# Altium schematic symbol library kmilo17pet-TI_LDO_0_350.SchLib: 1649 symbols (part 63 of 66)
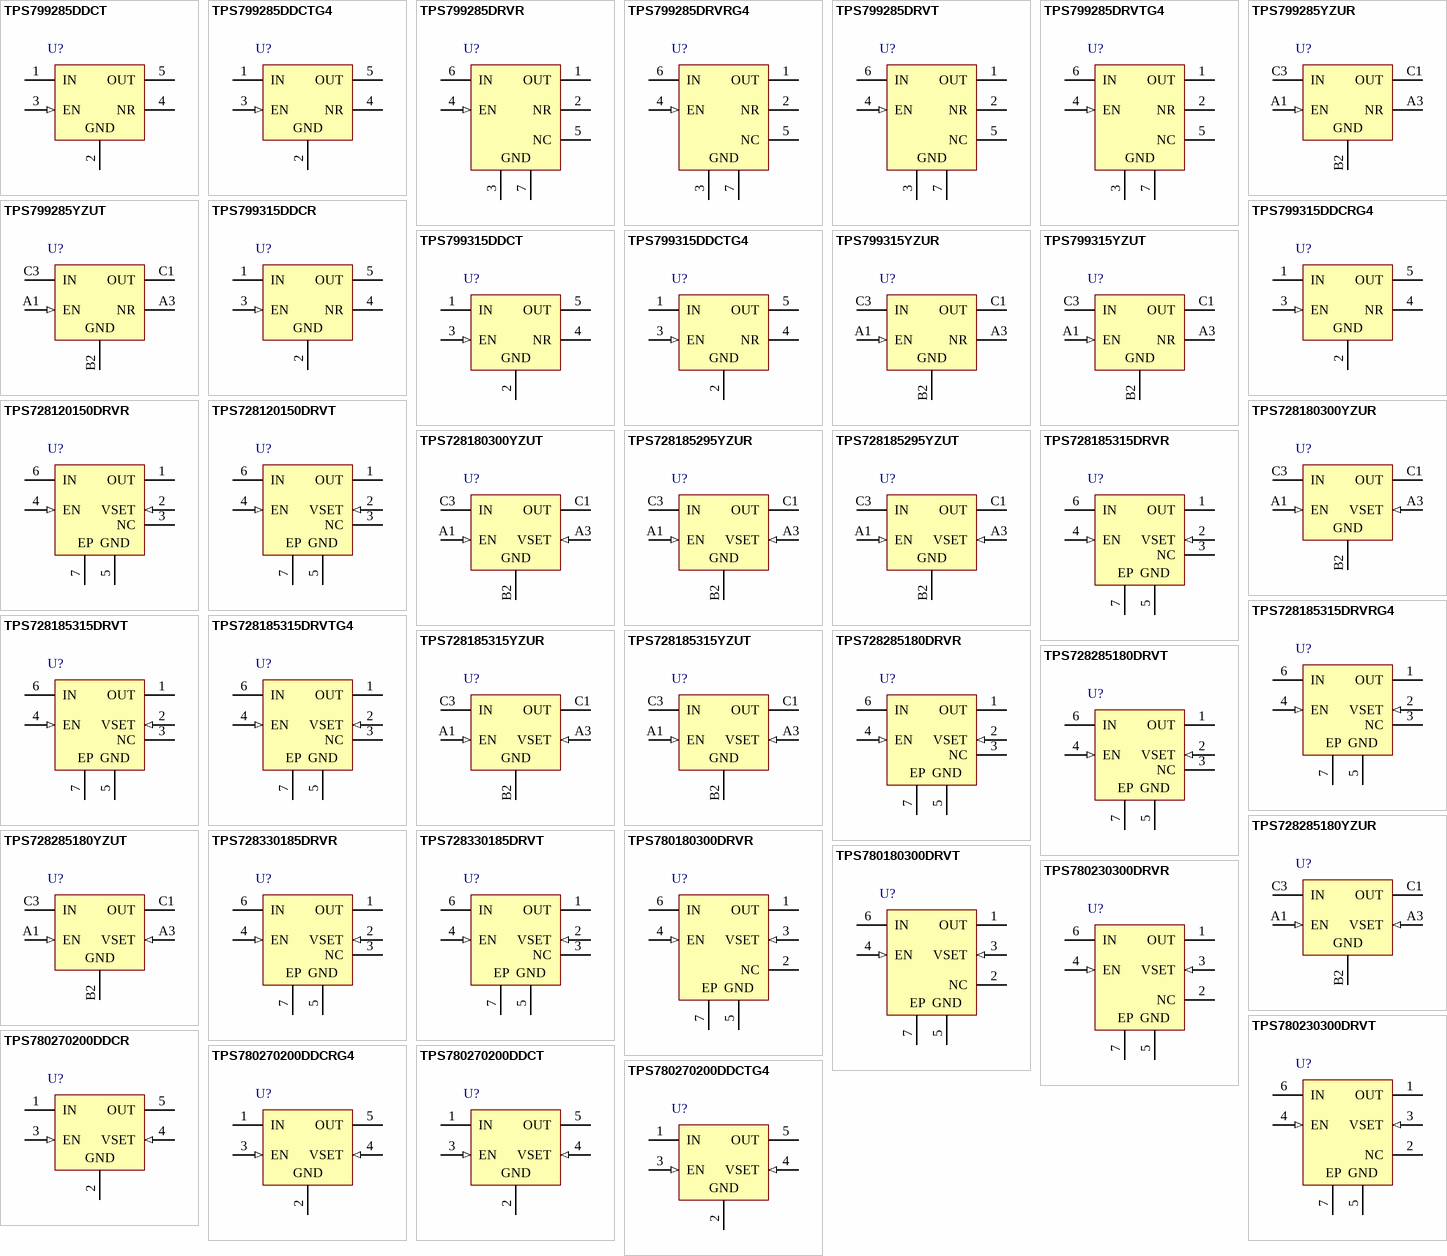
[diagram p104: symbols TPS799285DDCT to TPS780270200DDCTG4]

## TPS728185315DRVRG4
designator U?
Single Output Dual Level Fixed LDO, 200 mA, Fixed 1.85, 3.15 V Output, 2.7 to 6.5 V Input, with Vset Pin, 6-pin SON (DRV), -55 to 125 degC, Green (RoHS & no Sb/Br); Manufacturer: Texas Instruments; PartNumber: TPS728185315DRVRG4; Accuracy(%): 3; Dynamic Voltage Scaling: TRUE; Iout(Max)(A): 0.2; Iq(Typ)(mA): 0.05; SubFamily: Single Channel LDO; Vdo(Typ)(mV): 230; Vin(Max)(V): 6.5; Vin(Min)(V): 2.7; Vout Adj(Max)(V): 3.15; Vout Adj(Min)(V): 1.85; DatasheetVersion: SBVS095; PackageVersion: 4206925/E; PackageReference: DRV6-1600X1000TP; PackageDescription: 6-Pin Plastic Small Outline No-Lead, Body 2 x 2 mm, Pitch 0.65 mm; Supplier 1: Digi-Key; Supplier Part Number 1: TPS728185315DRVRG4-ND; Supplier 2: Newark; Supplier Part Number 2: 60M1813; Supplier 3: Mouser; Supplier Part Number 3: 595-S728185315DRVRG4; Eco-Plan: Green (RoHS & no Sb/Br); Fixed Output Options(V): 1.85, 3.15; Mounting Technology: Surface Mount; ComponentLink1Description: Manufacturer URL; ComponentLink1URL: http://www.ti.com/; ComponentLink2Description: Datasheet; ComponentLink2URL: http://www.ti.com/general/docs/lit/getliterature.tsp?genericPartNumber=TPS728185315&fileType=pdf; ComponentLink3Description: Package Specification; ComponentLink3URL: http://www.ti.com/litv/pdf/mpds216d
footprint TI-DRV6-1600X1000TP_V (SON, 6-Leads, Body 2x2mm, Pitch 0.65mm, Thermal Pad 1X1.6mm)
pins: 1 OUT (power) "Regulated output voltage pin. A small 1uF ceramic capacitor is needed from this pin to ground to assure stability.", 2 VSET (in) "Select pin. Driving VSET below 0.4V selects preset output voltage VOUT1. Driving VSET over 1.2V selects preset output voltage VOUT2.", 3 NC "No connection.", 4 EN (in) "Enable pin. Driving EN over 1.2V turns on the regulator. Driving EN below 0.4V puts the regulator into shutdown mode, thus reducing the operating current to 100nA, nominal.", 5 GND (power) "Ground pin.", 6 IN (power) "Input pin. A small capacitor is needed from this pin to ground to assure stability.", 7 EP (power) "Thermal Pad."

## TPS728185315DRVT
designator U?
Single Output Dual Level Fixed LDO, 200 mA, Fixed 1.85, 3.15 V Output, 2.7 to 6.5 V Input, with Vset Pin, 6-pin SON (DRV), -55 to 125 degC, Green (RoHS & no Sb/Br); Manufacturer: Texas Instruments; PartNumber: TPS728185315DRVT; Accuracy(%): 3; Dynamic Voltage Scaling: TRUE; Iout(Max)(A): 0.2; Iq(Typ)(mA): 0.05; SubFamily: Single Channel LDO; Vdo(Typ)(mV): 230; Vin(Max)(V): 6.5; Vin(Min)(V): 2.7; Vout Adj(Max)(V): 3.15; Vout Adj(Min)(V): 1.85; DatasheetVersion: SBVS095; PackageVersion: 4206925/E; PackageReference: DRV6-1600X1000TP; PackageDescription: 6-Pin Plastic Small Outline No-Lead, Body 2 x 2 mm, Pitch 0.65 mm; Supplier 1: Digi-Key; Supplier Part Number 1: 296-22620-2-ND; Supplier 2: Digi-Key; Supplier Part Number 2: 296-22620-1-ND; Supplier 3: Digi-Key; Supplier Part Number 3: 296-22620-6-ND; Supplier 4: Newark; Supplier Part Number 4: 58M1293; Supplier 5: Mouser; Supplier Part Number 5: 595-TPS728185315DRVT; Eco-Plan: Green (RoHS & no Sb/Br); Fixed Output Options(V): 1.85, 3.15; Mounting Technology: Surface Mount; ComponentLink1Description: Manufacturer URL; ComponentLink1URL: http://www.ti.com/; ComponentLink2Description: Datasheet; ComponentLink2URL: http://www.ti.com/general/docs/lit/getliterature.tsp?genericPartNumber=TPS728185315&fileType=pdf; ComponentLink3Description: Package Specification; ComponentLink3URL: http://www.ti.com/litv/pdf/mpds216d
footprint TI-DRV6-1600X1000TP_V (SON, 6-Leads, Body 2x2mm, Pitch 0.65mm, Thermal Pad 1X1.6mm)
pins: 1 OUT (power) "Regulated output voltage pin. A small 1uF ceramic capacitor is needed from this pin to ground to assure stability.", 2 VSET (in) "Select pin. Driving VSET below 0.4V selects preset output voltage VOUT1. Driving VSET over 1.2V selects preset output voltage VOUT2.", 3 NC "No connection.", 4 EN (in) "Enable pin. Driving EN over 1.2V turns on the regulator. Driving EN below 0.4V puts the regulator into shutdown mode, thus reducing the operating current to 100nA, nominal.", 5 GND (power) "Ground pin.", 6 IN (power) "Input pin. A small capacitor is needed from this pin to ground to assure stability.", 7 EP (power) "Thermal Pad."

## TPS728185315DRVTG4
designator U?
Single Output Dual Level Fixed LDO, 200 mA, Fixed 1.85, 3.15 V Output, 2.7 to 6.5 V Input, with Vset Pin, 6-pin SON (DRV), -55 to 125 degC, Green (RoHS & no Sb/Br); Manufacturer: Texas Instruments; PartNumber: TPS728185315DRVTG4; Accuracy(%): 3; Dynamic Voltage Scaling: TRUE; Iout(Max)(A): 0.2; Iq(Typ)(mA): 0.05; SubFamily: Single Channel LDO; Vdo(Typ)(mV): 230; Vin(Max)(V): 6.5; Vin(Min)(V): 2.7; Vout Adj(Max)(V): 3.15; Vout Adj(Min)(V): 1.85; DatasheetVersion: SBVS095; PackageVersion: 4206925/E; PackageReference: DRV6-1600X1000TP; PackageDescription: 6-Pin Plastic Small Outline No-Lead, Body 2 x 2 mm, Pitch 0.65 mm; Supplier 1: Digi-Key; Supplier Part Number 1: TPS728185315DRVTG4-ND; Supplier 2: Newark; Supplier Part Number 2: 60M1814; Supplier 3: Mouser; Supplier Part Number 3: 595-S728185315DRVTG4; Eco-Plan: Green (RoHS & no Sb/Br); Fixed Output Options(V): 1.85, 3.15; Mounting Technology: Surface Mount; ComponentLink1Description: Manufacturer URL; ComponentLink1URL: http://www.ti.com/; ComponentLink2Description: Datasheet; ComponentLink2URL: http://www.ti.com/general/docs/lit/getliterature.tsp?genericPartNumber=TPS728185315&fileType=pdf; ComponentLink3Description: Package Specification; ComponentLink3URL: http://www.ti.com/litv/pdf/mpds216d
footprint TI-DRV6-1600X1000TP_V (SON, 6-Leads, Body 2x2mm, Pitch 0.65mm, Thermal Pad 1X1.6mm)
pins: 1 OUT (power) "Regulated output voltage pin. A small 1uF ceramic capacitor is needed from this pin to ground to assure stability.", 2 VSET (in) "Select pin. Driving VSET below 0.4V selects preset output voltage VOUT1. Driving VSET over 1.2V selects preset output voltage VOUT2.", 3 NC "No connection.", 4 EN (in) "Enable pin. Driving EN over 1.2V turns on the regulator. Driving EN below 0.4V puts the regulator into shutdown mode, thus reducing the operating current to 100nA, nominal.", 5 GND (power) "Ground pin.", 6 IN (power) "Input pin. A small capacitor is needed from this pin to ground to assure stability.", 7 EP (power) "Thermal Pad."

## TPS728185315YZUR
designator U?
Single Output Dual Level Fixed LDO, 200 mA, Fixed 1.85, 3.15 V Output, 2.7 to 6.5 V Input, with Vset Pin, 5-pin DSBGA (YZU), -55 to 125 degC, Green (RoHS & no Sb/Br); Manufacturer: Texas Instruments; PartNumber: TPS728185315YZUR; Accuracy(%): 3; Dynamic Voltage Scaling: TRUE; Iout(Max)(A): 0.2; Iq(Typ)(mA): 0.05; SubFamily: Single Channel LDO; Vdo(Typ)(mV): 230; Vin(Max)(V): 6.5; Vin(Min)(V): 2.7; Vout Adj(Max)(V): 3.15; Vout Adj(Min)(V): 1.85; DatasheetVersion: SBVS095; PackageVersion: 4205678/D; PackageReference: YZU5; PackageDescription: 5-Pin Silicon Grid Array, Body 1.328 x 0.96 mm, Pitch 0.25 mm; Supplier 1: Digi-Key; Supplier Part Number 1: 296-23106-2-ND; Supplier 2: Digi-Key; Supplier Part Number 2: 296-23106-1-ND; Supplier 3: Digi-Key; Supplier Part Number 3: 296-23106-6-ND; Supplier 4: Newark; Supplier Part Number 4: 85M0233; Supplier 5: Mouser; Supplier Part Number 5: 595-TPS728185315YZUR; Eco-Plan: Green (RoHS & no Sb/Br); Fixed Output Options(V): 1.85, 3.15; Mounting Technology: Surface Mount; ComponentLink1Description: Manufacturer URL; ComponentLink1URL: http://www.ti.com/; ComponentLink2Description: Datasheet; ComponentLink2URL: http://www.ti.com/general/docs/lit/getliterature.tsp?genericPartNumber=TPS728185315&fileType=pdf; ComponentLink3Description: Package Specification; ComponentLink3URL: http://www.ti.com/litv/pdf/mpds018i
footprint TI-YZU5-1328X960DE (BGA, 5-Balls, Body 1.328x0.96mm, Pitch 0.25mm)
pins: A1 EN (in) "Enable pin. Driving EN over 1.2V turns on the regulator. Driving EN below 0.4V puts the regulator into shutdown mode, thus reducing the operating current to 100nA, nominal", A3 VSET (in) "Select pin. Driving VSET below 0.4V selects preset output voltage VOUT1. Driving VSET over 1.2V selects preset output voltage VOUT2.", B2 GND (power) "Ground pin", C1 OUT (power) "Regulated output voltage pin. A small 1uF ceramic capacitor is needed from this pin to ground to assure stability.", C3 IN (power) "Input pin. A small capacitor is needed from this pin to ground to assure stability."

## TPS728185315YZUT
designator U?
Single Output Dual Level Fixed LDO, 200 mA, Fixed 1.85, 3.15 V Output, 2.7 to 6.5 V Input, with Vset Pin, 5-pin DSBGA (YZU), -55 to 125 degC, Green (RoHS & no Sb/Br); Manufacturer: Texas Instruments; PartNumber: TPS728185315YZUT; Accuracy(%): 3; Dynamic Voltage Scaling: TRUE; Iout(Max)(A): 0.2; Iq(Typ)(mA): 0.05; SubFamily: Single Channel LDO; Vdo(Typ)(mV): 230; Vin(Max)(V): 6.5; Vin(Min)(V): 2.7; Vout Adj(Max)(V): 3.15; Vout Adj(Min)(V): 1.85; DatasheetVersion: SBVS095; PackageVersion: 4205678/D; PackageReference: YZU5; PackageDescription: 5-Pin Silicon Grid Array, Body 1.328 x 0.96 mm, Pitch 0.25 mm; Supplier 1: Digi-Key; Supplier Part Number 1: 296-32550-2-ND; Supplier 2: Digi-Key; Supplier Part Number 2: 296-32550-1-ND; Supplier 3: Digi-Key; Supplier Part Number 3: 296-32550-6-ND; Supplier 4: Newark; Supplier Part Number 4: 85M0234; Supplier 5: Mouser; Supplier Part Number 5: 595-TPS728185315YZUT; Eco-Plan: Green (RoHS & no Sb/Br); Fixed Output Options(V): 1.85, 3.15; Mounting Technology: Surface Mount; ComponentLink1Description: Manufacturer URL; ComponentLink1URL: http://www.ti.com/; ComponentLink2Description: Datasheet; ComponentLink2URL: http://www.ti.com/general/docs/lit/getliterature.tsp?genericPartNumber=TPS728185315&fileType=pdf; ComponentLink3Description: Package Specification; ComponentLink3URL: http://www.ti.com/litv/pdf/mpds018i
footprint TI-YZU5-1328X960DE (BGA, 5-Balls, Body 1.328x0.96mm, Pitch 0.25mm)
pins: A1 EN (in) "Enable pin. Driving EN over 1.2V turns on the regulator. Driving EN below 0.4V puts the regulator into shutdown mode, thus reducing the operating current to 100nA, nominal", A3 VSET (in) "Select pin. Driving VSET below 0.4V selects preset output voltage VOUT1. Driving VSET over 1.2V selects preset output voltage VOUT2.", B2 GND (power) "Ground pin", C1 OUT (power) "Regulated output voltage pin. A small 1uF ceramic capacitor is needed from this pin to ground to assure stability.", C3 IN (power) "Input pin. A small capacitor is needed from this pin to ground to assure stability."

## TPS728285180DRVR
designator U?
Single Output Dual Level Fixed LDO, 200 mA, Fixed 2.85, 1.8 V Output, 2.7 to 6.5 V Input, with Vset Pin, 6-pin SON (DRV), -40 to 125 degC; Manufacturer: Texas Instruments; PartNumber: TPS728285180DRVR; Accuracy(%): 3; Dynamic Voltage Scaling: TRUE; Eco-Plan: Green (RoHS & no Sb/Br); Iout(Max)(A): 0.2; Iq(Typ)(mA): 0.05; SubFamily: Single Channel LDO; Vdo(Typ)(mV): 230; Vin(Max)(V): 6.5; Vin(Min)(V): 2.7; Vout Adj(Max)(V): 2.85; Vout Adj(Min)(V): 1.8; DatasheetVersion: SBVS095; PackageVersion: 4206925/E; PackageReference: DRV6-1600X1000TP; PackageDescription: 6-Pin Plastic Small Outline No-Lead, Body 2 x 2 mm, Pitch 0.65 mm; Supplier 1: Mouser; Supplier Part Number 1: N/A; Fixed Output Options(V): 2.85, 1.8; Mounting Technology: Surface Mount; ComponentLink1Description: Manufacturer URL; ComponentLink1URL: http://www.ti.com/; ComponentLink2Description: Datasheet; ComponentLink2URL: http://www.ti.com/general/docs/lit/getliterature.tsp?genericPartNumber=TPS728285180&fileType=pdf; ComponentLink3Description: Package Specification; ComponentLink3URL: http://www.ti.com/litv/pdf/mpds216d
footprint TI-DRV6-1600X1000TP_V (SON, 6-Leads, Body 2x2mm, Pitch 0.65mm, Thermal Pad 1X1.6mm)
pins: 1 OUT (power) "Regulated output voltage pin. A small 1uF ceramic capacitor is needed from this pin to ground to assure stability.", 2 VSET (in) "Select pin. Driving VSET below 0.4V selects preset output voltage VOUT1. Driving VSET over 1.2V selects preset output voltage VOUT2.", 3 NC "No connection.", 4 EN (in) "Enable pin. Driving EN over 1.2V turns on the regulator. Driving EN below 0.4V puts the regulator into shutdown mode, thus reducing the operating current to 100nA, nominal.", 5 GND (power) "Ground pin.", 6 IN (power) "Input pin. A small capacitor is needed from this pin to ground to assure stability.", 7 EP (power) "Thermal Pad."

## TPS728285180DRVT
designator U?
Single Output Dual Level Fixed LDO, 200 mA, Fixed 2.85, 1.8 V Output, 2.7 to 6.5 V Input, with Vset Pin, 6-pin SON (DRV), -40 to 125 degC; Manufacturer: Texas Instruments; PartNumber: TPS728285180DRVT; Accuracy(%): 3; Dynamic Voltage Scaling: TRUE; Iout(Max)(A): 0.2; Iq(Typ)(mA): 0.05; SubFamily: Single Channel LDO; Vdo(Typ)(mV): 230; Vin(Max)(V): 6.5; Vin(Min)(V): 2.7; Vout Adj(Max)(V): 2.85; Vout Adj(Min)(V): 1.8; DatasheetVersion: SBVS095; PackageVersion: 4206925/E; PackageReference: DRV6-1600X1000TP; PackageDescription: 6-Pin Plastic Small Outline No-Lead, Body 2 x 2 mm, Pitch 0.65 mm; Supplier 1: Mouser; Supplier Part Number 1: N/A; Fixed Output Options(V): 2.85, 1.8; Mounting Technology: Surface Mount; ComponentLink1Description: Manufacturer URL; ComponentLink1URL: http://www.ti.com/; ComponentLink2Description: Datasheet; ComponentLink2URL: http://www.ti.com/general/docs/lit/getliterature.tsp?genericPartNumber=TPS728285180&fileType=pdf; ComponentLink3Description: Package Specification; ComponentLink3URL: http://www.ti.com/litv/pdf/mpds216d
footprint TI-DRV6-1600X1000TP_V (SON, 6-Leads, Body 2x2mm, Pitch 0.65mm, Thermal Pad 1X1.6mm)
pins: 1 OUT (power) "Regulated output voltage pin. A small 1uF ceramic capacitor is needed from this pin to ground to assure stability.", 2 VSET (in) "Select pin. Driving VSET below 0.4V selects preset output voltage VOUT1. Driving VSET over 1.2V selects preset output voltage VOUT2.", 3 NC "No connection.", 4 EN (in) "Enable pin. Driving EN over 1.2V turns on the regulator. Driving EN below 0.4V puts the regulator into shutdown mode, thus reducing the operating current to 100nA, nominal.", 5 GND (power) "Ground pin.", 6 IN (power) "Input pin. A small capacitor is needed from this pin to ground to assure stability.", 7 EP (power) "Thermal Pad."

## TPS728285180YZUR
designator U?
Single Output Dual Level Fixed LDO, 200 mA, Fixed 2.85, 1.8 V Output, 2.7 to 6.5 V Input, with Vset Pin, 5-pin DSBGA (YZU), -40 to 125 degC, Green (RoHS & no Sb/Br); Manufacturer: Texas Instruments; PartNumber: TPS728285180YZUR; Accuracy(%): 3; Dynamic Voltage Scaling: TRUE; Iout(Max)(A): 0.2; Iq(Typ)(mA): 0.05; SubFamily: Single Channel LDO; Vdo(Typ)(mV): 230; Vin(Max)(V): 6.5; Vin(Min)(V): 2.7; Vout Adj(Max)(V): 2.85; Vout Adj(Min)(V): 1.8; DatasheetVersion: SBVS095; PackageVersion: 4205678/D; PackageReference: YZU5; PackageDescription: 5-Pin Silicon Grid Array, Body 1.328 x 0.96 mm, Pitch 0.25 mm; Supplier 1: Digi-Key; Supplier Part Number 1: TPS728285180YZUR-ND; Supplier 2: Mouser; Supplier Part Number 2: 595-TPS728285180YZUR; Eco-Plan: Green (RoHS & no Sb/Br); Fixed Output Options(V): 2.85, 1.8; Mounting Technology: Surface Mount; ComponentLink1Description: Manufacturer URL; ComponentLink1URL: http://www.ti.com/; ComponentLink2Description: Datasheet; ComponentLink2URL: http://www.ti.com/general/docs/lit/getliterature.tsp?genericPartNumber=TPS728285180&fileType=pdf; ComponentLink3Description: Package Specification; ComponentLink3URL: http://www.ti.com/litv/pdf/mpds018i
footprint TI-YZU5-1328X960DE (BGA, 5-Balls, Body 1.328x0.96mm, Pitch 0.25mm)
pins: A1 EN (in) "Enable pin. Driving EN over 1.2V turns on the regulator. Driving EN below 0.4V puts the regulator into shutdown mode, thus reducing the operating current to 100nA, nominal", A3 VSET (in) "Select pin. Driving VSET below 0.4V selects preset output voltage VOUT1. Driving VSET over 1.2V selects preset output voltage VOUT2.", B2 GND (power) "Ground pin", C1 OUT (power) "Regulated output voltage pin. A small 1uF ceramic capacitor is needed from this pin to ground to assure stability.", C3 IN (power) "Input pin. A small capacitor is needed from this pin to ground to assure stability."

## TPS728285180YZUT
designator U?
Single Output Dual Level Fixed LDO, 200 mA, Fixed 2.85, 1.8 V Output, 2.7 to 6.5 V Input, with Vset Pin, 5-pin DSBGA (YZU), -40 to 125 degC, Green (RoHS & no Sb/Br); Manufacturer: Texas Instruments; PartNumber: TPS728285180YZUT; Accuracy(%): 3; Dynamic Voltage Scaling: TRUE; Iout(Max)(A): 0.2; Iq(Typ)(mA): 0.05; SubFamily: Single Channel LDO; Vdo(Typ)(mV): 230; Vin(Max)(V): 6.5; Vin(Min)(V): 2.7; Vout Adj(Max)(V): 2.85; Vout Adj(Min)(V): 1.8; DatasheetVersion: SBVS095; PackageVersion: 4205678/D; PackageReference: YZU5; PackageDescription: 5-Pin Silicon Grid Array, Body 1.328 x 0.96 mm, Pitch 0.25 mm; Supplier 1: Digi-Key; Supplier Part Number 1: 296-30181-2-ND; Supplier 2: Digi-Key; Supplier Part Number 2: 296-30181-1-ND; Supplier 3: Digi-Key; Supplier Part Number 3: 296-30181-6-ND; Supplier 4: Farnell; Supplier Part Number 4: 2078542; Supplier 5: Newark; Supplier Part Number 5: 76T8174; Supplier 6: Mouser; Supplier Part Number 6: 595-TPS728285180YZUT; Eco-Plan: Green (RoHS & no Sb/Br); Fixed Output Options(V): 2.85, 1.8; Mounting Technology: Surface Mount; ComponentLink1Description: Manufacturer URL; ComponentLink1URL: http://www.ti.com/; ComponentLink2Description: Datasheet; ComponentLink2URL: http://www.ti.com/general/docs/lit/getliterature.tsp?genericPartNumber=TPS728285180&fileType=pdf; ComponentLink3Description: Package Specification; ComponentLink3URL: http://www.ti.com/litv/pdf/mpds018i
footprint TI-YZU5-1328X960DE (BGA, 5-Balls, Body 1.328x0.96mm, Pitch 0.25mm)
pins: A1 EN (in) "Enable pin. Driving EN over 1.2V turns on the regulator. Driving EN below 0.4V puts the regulator into shutdown mode, thus reducing the operating current to 100nA, nominal", A3 VSET (in) "Select pin. Driving VSET below 0.4V selects preset output voltage VOUT1. Driving VSET over 1.2V selects preset output voltage VOUT2.", B2 GND (power) "Ground pin", C1 OUT (power) "Regulated output voltage pin. A small 1uF ceramic capacitor is needed from this pin to ground to assure stability.", C3 IN (power) "Input pin. A small capacitor is needed from this pin to ground to assure stability."

## TPS728330185DRVR
designator U?
Single Output Dual Level Fixed LDO, 200 mA, Fixed 3.3, 1.85 V Output, 2.7 to 6.5 V Input, with Vset Pin, 6-pin SON (DRV), -40 to 125 degC, Green (RoHS & no Sb/Br); Manufacturer: Texas Instruments; PartNumber: TPS728330185DRVR; Accuracy(%): 3; Dynamic Voltage Scaling: TRUE; Iout(Max)(A): 0.2; Iq(Typ)(mA): 0.05; SubFamily: Single Channel LDO; Vdo(Typ)(mV): 230; Vin(Max)(V): 6.5; Vin(Min)(V): 2.7; Vout Adj(Max)(V): 3.3; Vout Adj(Min)(V): 1.85; DatasheetVersion: SBVS095; PackageVersion: 4206925/E; PackageReference: DRV6-1600X1000TP; PackageDescription: 6-Pin Plastic Small Outline No-Lead, Body 2 x 2 mm, Pitch 0.65 mm; Supplier 1: Digi-Key; Supplier Part Number 1: 296-30080-2-ND; Supplier 2: Digi-Key; Supplier Part Number 2: 296-30080-1-ND; Supplier 3: Digi-Key; Supplier Part Number 3: 296-30080-6-ND; Supplier 4: Mouser; Supplier Part Number 4: 595-TPS728330185DRVR; Eco-Plan: Green (RoHS & no Sb/Br); Fixed Output Options(V): 3.3, 1.85; Mounting Technology: Surface Mount; ComponentLink1Description: Manufacturer URL; ComponentLink1URL: http://www.ti.com/; ComponentLink2Description: Datasheet; ComponentLink2URL: http://www.ti.com/general/docs/lit/getliterature.tsp?genericPartNumber=TPS728330185&fileType=pdf; ComponentLink3Description: Package Specification; ComponentLink3URL: http://www.ti.com/litv/pdf/mpds216d
footprint TI-DRV6-1600X1000TP_V (SON, 6-Leads, Body 2x2mm, Pitch 0.65mm, Thermal Pad 1X1.6mm)
pins: 1 OUT (power) "Regulated output voltage pin. A small 1uF ceramic capacitor is needed from this pin to ground to assure stability.", 2 VSET (in) "Select pin. Driving VSET below 0.4V selects preset output voltage VOUT1. Driving VSET over 1.2V selects preset output voltage VOUT2.", 3 NC "No connection.", 4 EN (in) "Enable pin. Driving EN over 1.2V turns on the regulator. Driving EN below 0.4V puts the regulator into shutdown mode, thus reducing the operating current to 100nA, nominal.", 5 GND (power) "Ground pin.", 6 IN (power) "Input pin. A small capacitor is needed from this pin to ground to assure stability.", 7 EP (power) "Thermal Pad."

## TPS728330185DRVT
designator U?
Single Output Dual Level Fixed LDO, 200 mA, Fixed 3.3, 1.85 V Output, 2.7 to 6.5 V Input, with Vset Pin, 6-pin SON (DRV), -40 to 125 degC, Green (RoHS & no Sb/Br); Manufacturer: Texas Instruments; PartNumber: TPS728330185DRVT; Accuracy(%): 3; Dynamic Voltage Scaling: TRUE; Iout(Max)(A): 0.2; Iq(Typ)(mA): 0.05; SubFamily: Single Channel LDO; Vdo(Typ)(mV): 230; Vin(Max)(V): 6.5; Vin(Min)(V): 2.7; Vout Adj(Max)(V): 3.3; Vout Adj(Min)(V): 1.85; DatasheetVersion: SBVS095; PackageVersion: 4206925/E; PackageReference: DRV6-1600X1000TP; PackageDescription: 6-Pin Plastic Small Outline No-Lead, Body 2 x 2 mm, Pitch 0.65 mm; Supplier 1: Digi-Key; Supplier Part Number 1: 296-30182-2-ND; Supplier 2: Digi-Key; Supplier Part Number 2: 296-30182-1-ND; Supplier 3: Digi-Key; Supplier Part Number 3: 296-30182-6-ND; Supplier 4: Farnell; Supplier Part Number 4: 2078546; Supplier 5: Mouser; Supplier Part Number 5: 595-TPS728330185DRVT; Eco-Plan: Green (RoHS & no Sb/Br); Fixed Output Options(V): 3.3, 1.85; Mounting Technology: Surface Mount; ComponentLink1Description: Manufacturer URL; ComponentLink1URL: http://www.ti.com/; ComponentLink2Description: Datasheet; ComponentLink2URL: http://www.ti.com/general/docs/lit/getliterature.tsp?genericPartNumber=TPS728330185&fileType=pdf; ComponentLink3Description: Package Specification; ComponentLink3URL: http://www.ti.com/litv/pdf/mpds216d
footprint TI-DRV6-1600X1000TP_V (SON, 6-Leads, Body 2x2mm, Pitch 0.65mm, Thermal Pad 1X1.6mm)
pins: 1 OUT (power) "Regulated output voltage pin. A small 1uF ceramic capacitor is needed from this pin to ground to assure stability.", 2 VSET (in) "Select pin. Driving VSET below 0.4V selects preset output voltage VOUT1. Driving VSET over 1.2V selects preset output voltage VOUT2.", 3 NC "No connection.", 4 EN (in) "Enable pin. Driving EN over 1.2V turns on the regulator. Driving EN below 0.4V puts the regulator into shutdown mode, thus reducing the operating current to 100nA, nominal.", 5 GND (power) "Ground pin.", 6 IN (power) "Input pin. A small capacitor is needed from this pin to ground to assure stability.", 7 EP (power) "Thermal Pad."

## TPS780180300DRVR
designator U?
Single Output LDO, 150 mA, Fixed 1.8, 3.0 V Output, 2.2 to 5.5 V Input, with Pin-Selectable, 6-pin SON (DRV), -40 to 125 degC, Green (RoHS & no Sb/Br); Manufacturer: Texas Instruments; PartNumber: TPS780180300DRVR; Accuracy(%): 3; Iout(Max)(A): 0.15; Iq(Typ)(mA): 0.0005; SubFamily: Single Channel LDO; Vdo(Typ)(mV): 200; Vin(Max)(V): 5.5; Vin(Min)(V): 2.2; DatasheetVersion: SBVS083D; PackageVersion: 4206925/E; PackageReference: DRV6-1600X1000TP; PackageDescription: 6-Pin Plastic Small Outline No-Lead, Body 2 x 2 mm, Pitch 0.65 mm; Supplier 1: Digi-Key; Supplier Part Number 1: 296-29816-2-ND; Supplier 2: Digi-Key; Supplier Part Number 2: 296-29816-1-ND; Supplier 3: Digi-Key; Supplier Part Number 3: 296-29816-6-ND; Supplier 4: Mouser; Supplier Part Number 4: 595-TPS780180300DRVR; Eco-Plan: Green (RoHS & no Sb/Br); Fixed Output Options(V): 1.8, 3.0; Mounting Technology: Surface Mount; ComponentLink1Description: Manufacturer URL; ComponentLink1URL: http://www.ti.com/; ComponentLink2Description: Datasheet; ComponentLink2URL: http://www.ti.com/general/docs/lit/getliterature.tsp?genericPartNumber=TPS780180300&fileType=pdf; ComponentLink3Description: Package Specification; ComponentLink3URL: http://www.ti.com/litv/pdf/mpds216d
footprint TI-DRV6-1600X1000TP_V (SON, 6-Leads, Body 2x2mm, Pitch 0.65mm, Thermal Pad 1X1.6mm)
pins: 1 OUT (power) "Regulated output voltage pin. A small (1uF) ceramic capacitor is needed from this pin to ground to assure stability.", 2 NC "Not connected.", 3 VSET (in) "VSET for fixed voltage versions. Driving the select pin (VSET) below 0.4V selects preset output voltage high. Driving the VSET pin over 1.2V selects preset output voltage low.", 4 EN (in) "Driving the enable pin (EN) over 1.2V turns on the regulator. Driving this pin below 0.4V puts the regulator into shutdown mode, reducing operating current to 18nA typical.", 5 GND (power) "Ground pin.", 6 IN (power) "Input pin. A small capacitor is needed from this pin to ground to assure stability. Typical input capacitor = 1.0uF. Both input and output capacitor grounds should be tied back to the IC ground with no significant impedance (See Datasheet)", 7 EP (power) "It is recommended that the SON package thermal pad be connected to ground."

## TPS780180300DRVT
designator U?
Single Output LDO, 150 mA, Fixed 1.8, 3.0 V Output, 2.2 to 5.5 V Input, with Pin-Selectable, 6-pin SON (DRV), -40 to 125 degC, Green (RoHS & no Sb/Br); Manufacturer: Texas Instruments; PartNumber: TPS780180300DRVT; Accuracy(%): 3; Iout(Max)(A): 0.15; Iq(Typ)(mA): 0.0005; SubFamily: Single Channel LDO; Vdo(Typ)(mV): 200; Vin(Max)(V): 5.5; Vin(Min)(V): 2.2; DatasheetVersion: SBVS083D; PackageVersion: 4206925/E; PackageReference: DRV6-1600X1000TP; PackageDescription: 6-Pin Plastic Small Outline No-Lead, Body 2 x 2 mm, Pitch 0.65 mm; Supplier 1: Digi-Key; Supplier Part Number 1: TPS780180300DRVT-ND; Supplier 2: Mouser; Supplier Part Number 2: 595-TPS780180300DRVT; Eco-Plan: Green (RoHS & no Sb/Br); Fixed Output Options(V): 1.8, 3.0; Mounting Technology: Surface Mount; ComponentLink1Description: Manufacturer URL; ComponentLink1URL: http://www.ti.com/; ComponentLink2Description: Datasheet; ComponentLink2URL: http://www.ti.com/general/docs/lit/getliterature.tsp?genericPartNumber=TPS780180300&fileType=pdf; ComponentLink3Description: Package Specification; ComponentLink3URL: http://www.ti.com/litv/pdf/mpds216d
footprint TI-DRV6-1600X1000TP_V (SON, 6-Leads, Body 2x2mm, Pitch 0.65mm, Thermal Pad 1X1.6mm)
pins: 1 OUT (power) "Regulated output voltage pin. A small (1uF) ceramic capacitor is needed from this pin to ground to assure stability.", 2 NC "Not connected.", 3 VSET (in) "VSET for fixed voltage versions. Driving the select pin (VSET) below 0.4V selects preset output voltage high. Driving the VSET pin over 1.2V selects preset output voltage low.", 4 EN (in) "Driving the enable pin (EN) over 1.2V turns on the regulator. Driving this pin below 0.4V puts the regulator into shutdown mode, reducing operating current to 18nA typical.", 5 GND (power) "Ground pin.", 6 IN (power) "Input pin. A small capacitor is needed from this pin to ground to assure stability. Typical input capacitor = 1.0uF. Both input and output capacitor grounds should be tied back to the IC ground with no significant impedance (See Datasheet)", 7 EP (power) "It is recommended that the SON package thermal pad be connected to ground."

## TPS780230300DRVR
designator U?
Single Output LDO, 150 mA, Fixed 2.3, 3.3 V Output, 2.2 to 5.5 V Input, with Pin-Selectable, 6-pin SON (DRV), -40 to 125 degC, Green (RoHS & no Sb/Br); Manufacturer: Texas Instruments; PartNumber: TPS780230300DRVR; Accuracy(%): 3; Fixed Output Options(V): 2.3, 3.0; Iout(Max)(A): 0.15; Iq(Typ)(mA): 0.0005; SubFamily: Single Channel LDO; Vdo(Typ)(mV): 200; Vin(Max)(V): 5.5; Vin(Min)(V): 2.2; DatasheetVersion: SBVS083D; PackageVersion: 4206925/E; PackageReference: DRV6-1600X1000TP; PackageDescription: 6-Pin Plastic Small Outline No-Lead, Body 2 x 2 mm, Pitch 0.65 mm; Supplier 1: Digi-Key; Supplier Part Number 1: TPS780230300DRVR-ND; Supplier 2: Mouser; Supplier Part Number 2: 595-TPS780230300DRVR; Eco-Plan: Green (RoHS & no Sb/Br); Mounting Technology: Surface Mount; ComponentLink1Description: Manufacturer URL; ComponentLink1URL: http://www.ti.com/; ComponentLink2Description: Datasheet; ComponentLink2URL: http://www.ti.com/general/docs/lit/getliterature.tsp?genericPartNumber=TPS780230300&fileType=pdf; ComponentLink3Description: Package Specification; ComponentLink3URL: http://www.ti.com/litv/pdf/mpds216d
footprint TI-DRV6-1600X1000TP_V (SON, 6-Leads, Body 2x2mm, Pitch 0.65mm, Thermal Pad 1X1.6mm)
pins: 1 OUT (power) "Regulated output voltage pin. A small (1uF) ceramic capacitor is needed from this pin to ground to assure stability.", 2 NC "Not connected.", 3 VSET (in) "VSET for fixed voltage versions. Driving the select pin (VSET) below 0.4V selects preset output voltage high. Driving the VSET pin over 1.2V selects preset output voltage low.", 4 EN (in) "Driving the enable pin (EN) over 1.2V turns on the regulator. Driving this pin below 0.4V puts the regulator into shutdown mode, reducing operating current to 18nA typical.", 5 GND (power) "Ground pin.", 6 IN (power) "Input pin. A small capacitor is needed from this pin to ground to assure stability. Typical input capacitor = 1.0uF. Both input and output capacitor grounds should be tied back to the IC ground with no significant impedance (See Datasheet)", 7 EP (power) "It is recommended that the SON package thermal pad be connected to ground."

## TPS780230300DRVT
designator U?
Single Output LDO, 150 mA, Fixed 2.3, 3.3 V Output, 2.2 to 5.5 V Input, with Pin-Selectable, 6-pin SON (DRV), -40 to 125 degC; Manufacturer: Texas Instruments; PartNumber: TPS780230300DRVT; Accuracy(%): 3; Fixed Output Options(V): 2.3, 3.0; Iout(Max)(A): 0.15; Iq(Typ)(mA): 0.0005; SubFamily: Single Channel LDO; Vdo(Typ)(mV): 200; Vin(Max)(V): 5.5; Vin(Min)(V): 2.2; DatasheetVersion: SBVS083D; PackageVersion: 4206925/E; PackageReference: DRV6-1600X1000TP; PackageDescription: 6-Pin Plastic Small Outline No-Lead, Body 2 x 2 mm, Pitch 0.65 mm; Supplier 1: Digi-Key; Supplier Part Number 1: 296-24206-2-ND; Supplier 2: Digi-Key; Supplier Part Number 2: 296-24206-1-ND; Supplier 3: Digi-Key; Supplier Part Number 3: 296-24206-6-ND; Supplier 4: Farnell; Supplier Part Number 4: 1710833; Supplier 5: Farnell; Supplier Part Number 5: 1710833RL; Supplier 6: Newark; Supplier Part Number 6: 73P4656; Supplier 7: Mouser; Supplier Part Number 7: 595-TPS780230300DRVT; Mounting Technology: Surface Mount; ComponentLink1Description: Manufacturer URL; ComponentLink1URL: http://www.ti.com/; ComponentLink2Description: Datasheet; ComponentLink2URL: http://www.ti.com/general/docs/lit/getliterature.tsp?genericPartNumber=TPS780230300&fileType=pdf; ComponentLink3Description: Package Specification; ComponentLink3URL: http://www.ti.com/litv/pdf/mpds216d
footprint TI-DRV6-1600X1000TP_V (SON, 6-Leads, Body 2x2mm, Pitch 0.65mm, Thermal Pad 1X1.6mm)
pins: 1 OUT (power) "Regulated output voltage pin. A small (1uF) ceramic capacitor is needed from this pin to ground to assure stability.", 2 NC "Not connected.", 3 VSET (in) "VSET for fixed voltage versions. Driving the select pin (VSET) below 0.4V selects preset output voltage high. Driving the VSET pin over 1.2V selects preset output voltage low.", 4 EN (in) "Driving the enable pin (EN) over 1.2V turns on the regulator. Driving this pin below 0.4V puts the regulator into shutdown mode, reducing operating current to 18nA typical.", 5 GND (power) "Ground pin.", 6 IN (power) "Input pin. A small capacitor is needed from this pin to ground to assure stability. Typical input capacitor = 1.0uF. Both input and output capacitor grounds should be tied back to the IC ground with no significant impedance (See Datasheet)", 7 EP (power) "It is recommended that the SON package thermal pad be connected to ground."

## TPS780270200DDCR
designator U?
Single Output LDO, 150 mA, Fixed 2.7 V Output, 2.2 to 5.5 V Input, with Pin-Selectable, 5-pin SOT (DDC), -40 to 125 degC, Green (RoHS & no Sb/Br); Manufacturer: Texas Instruments; PartNumber: TPS780270200DDCR; Accuracy(%): 3; Dynamic Voltage Scaling: TRUE; Fixed Output Options(V): 2.7; Iout(Max)(A): 0.15; Iq(Typ)(mA): 0.0005; SubFamily: Single Channel LDO; Vdo(Typ)(mV): 200; Vin(Max)(V): 5.5; Vin(Min)(V): 2.2; DatasheetVersion: SBVS083D; PackageVersion: 4204403-2/E; PackageReference: DDC5; PackageDescription: 5-Pin Plastic Small Outline, Body 2.9 x 1.6 mm, 0.95 mm Pitch; Supplier 1: Digi-Key; Supplier Part Number 1: 296-23688-2-ND; Supplier 2: Digi-Key; Supplier Part Number 2: 296-23688-1-ND; Supplier 3: Digi-Key; Supplier Part Number 3: 296-23688-6-ND; Supplier 4: Newark; Supplier Part Number 4: 03P1645; Supplier 5: Mouser; Supplier Part Number 5: 595-TPS780270200DDCR; Eco-Plan: Green (RoHS & no Sb/Br); Vout Adj(Max)(V): 2.7; Vout Adj(Min)(V): 2.7; Mounting Technology: Surface Mount; Code_JEDEC: MO-193; ComponentLink1Description: Manufacturer URL; ComponentLink1URL: http://www.ti.com/; ComponentLink2Description: Datasheet; ComponentLink2URL: http://www.ti.com/general/docs/lit/getliterature.tsp?genericPartNumber=TPS780270200&fileType=pdf; ComponentLink3Description: Package Specification; ComponentLink3URL: http://www.ti.com/litv/pdf/mpds123d
footprint TI-DDC5_N (SOT23, 5-Leads, Body 2.9x1.6mm, Pitch 0.95mm, IPC Medium Density)
footprint TI-DDC5_L (SOT23, 5-Leads, Body 2.9x1.6mm, Pitch 0.95mm, IPC High Density)
footprint TI-DDC5_M (SOT23, 5-Leads, Body 2.9x1.6mm, Pitch 0.95mm, IPC Low Density)
pins: 1 IN (power) "Input pin. A small capacitor is needed from this pin to ground to assure stability. Typical input capacitor = 1.0uF. Both input and output capacitor grounds should be tied back to the IC ground with no significant impedance (See Datasheet)", 2 GND (power) "Ground pin.", 3 EN (in) "Driving the enable pin (EN) over 1.2V turns on the regulator. Driving this pin below 0.4V puts the regulator into shutdown mode, reducing operating current to 18nA typical", 4 VSET (in) "VSET for fixed voltage versions. Driving the select pin (VSET) below 0.4V selects preset output voltage high. Driving the VSET pin over 1.2V selects preset output voltage low.", 5 OUT (power) "Regulated output voltage pin. A small (1uF) ceramic capacitor is needed from this pin to ground to assure stability."

## TPS780270200DDCRG4
designator U?
Single Output LDO, 150 mA, Fixed 2.7 V Output, 2.2 to 5.5 V Input, with Pin-Selectable, 5-pin SOT (DDC), -40 to 125 degC, Green (RoHS & no Sb/Br); Manufacturer: Texas Instruments; PartNumber: TPS780270200DDCRG4; Accuracy(%): 3; Dynamic Voltage Scaling: TRUE; Fixed Output Options(V): 2.7; Iout(Max)(A): 0.15; Iq(Typ)(mA): 0.0005; SubFamily: Single Channel LDO; Vdo(Typ)(mV): 200; Vin(Max)(V): 5.5; Vin(Min)(V): 2.2; DatasheetVersion: SBVS083D; PackageVersion: 4204403-2/E; PackageReference: DDC5; PackageDescription: 5-Pin Plastic Small Outline, Body 2.9 x 1.6 mm, 0.95 mm Pitch; Supplier 1: Digi-Key; Supplier Part Number 1: TPS780270200DDCRG4-ND; Supplier 2: Mouser; Supplier Part Number 2: 595-S780270200DDCRG4; Eco-Plan: Green (RoHS & no Sb/Br); Vout Adj(Max)(V): 2.7; Vout Adj(Min)(V): 2.7; Mounting Technology: Surface Mount; Code_JEDEC: MO-193; ComponentLink1Description: Manufacturer URL; ComponentLink1URL: http://www.ti.com/; ComponentLink2Description: Datasheet; ComponentLink2URL: http://www.ti.com/general/docs/lit/getliterature.tsp?genericPartNumber=TPS780270200&fileType=pdf; ComponentLink3Description: Package Specification; ComponentLink3URL: http://www.ti.com/litv/pdf/mpds123d
footprint TI-DDC5_N (SOT23, 5-Leads, Body 2.9x1.6mm, Pitch 0.95mm, IPC Medium Density)
footprint TI-DDC5_L (SOT23, 5-Leads, Body 2.9x1.6mm, Pitch 0.95mm, IPC High Density)
footprint TI-DDC5_M (SOT23, 5-Leads, Body 2.9x1.6mm, Pitch 0.95mm, IPC Low Density)
pins: 1 IN (power) "Input pin. A small capacitor is needed from this pin to ground to assure stability. Typical input capacitor = 1.0uF. Both input and output capacitor grounds should be tied back to the IC ground with no significant impedance (See Datasheet)", 2 GND (power) "Ground pin.", 3 EN (in) "Driving the enable pin (EN) over 1.2V turns on the regulator. Driving this pin below 0.4V puts the regulator into shutdown mode, reducing operating current to 18nA typical", 4 VSET (in) "VSET for fixed voltage versions. Driving the select pin (VSET) below 0.4V selects preset output voltage high. Driving the VSET pin over 1.2V selects preset output voltage low.", 5 OUT (power) "Regulated output voltage pin. A small (1uF) ceramic capacitor is needed from this pin to ground to assure stability."

## TPS780270200DDCT
designator U?
Single Output LDO, 150 mA, Fixed 2.7 V Output, 2.2 to 5.5 V Input, with Pin-Selectable, 5-pin SOT (DDC), -40 to 125 degC, Green (RoHS & no Sb/Br); Manufacturer: Texas Instruments; PartNumber: TPS780270200DDCT; Accuracy(%): 3; Dynamic Voltage Scaling: TRUE; Fixed Output Options(V): 2.7; Iout(Max)(A): 0.15; Iq(Typ)(mA): 0.0005; SubFamily: Single Channel LDO; Vdo(Typ)(mV): 200; Vin(Max)(V): 5.5; Vin(Min)(V): 2.2; DatasheetVersion: SBVS083D; PackageVersion: 4204403-2/E; PackageReference: DDC5; PackageDescription: 5-Pin Plastic Small Outline, Body 2.9 x 1.6 mm, 0.95 mm Pitch; Supplier 1: Digi-Key; Supplier Part Number 1: 296-32564-2-ND; Supplier 2: Digi-Key; Supplier Part Number 2: 296-32564-1-ND; Supplier 3: Digi-Key; Supplier Part Number 3: 296-32564-6-ND; Supplier 4: Farnell; Supplier Part Number 4: 1679769; Supplier 5: Newark; Supplier Part Number 5: 19P1783; Supplier 6: Mouser; Supplier Part Number 6: 595-TPS780270200DDCT; Eco-Plan: Green (RoHS & no Sb/Br); Vout Adj(Max)(V): 2.7; Vout Adj(Min)(V): 2.7; Mounting Technology: Surface Mount; Code_JEDEC: MO-193; ComponentLink1Description: Manufacturer URL; ComponentLink1URL: http://www.ti.com/; ComponentLink2Description: Datasheet; ComponentLink2URL: http://www.ti.com/general/docs/lit/getliterature.tsp?genericPartNumber=TPS780270200&fileType=pdf; ComponentLink3Description: Package Specification; ComponentLink3URL: http://www.ti.com/litv/pdf/mpds123d
footprint TI-DDC5_N (SOT23, 5-Leads, Body 2.9x1.6mm, Pitch 0.95mm, IPC Medium Density)
footprint TI-DDC5_L (SOT23, 5-Leads, Body 2.9x1.6mm, Pitch 0.95mm, IPC High Density)
footprint TI-DDC5_M (SOT23, 5-Leads, Body 2.9x1.6mm, Pitch 0.95mm, IPC Low Density)
pins: 1 IN (power) "Input pin. A small capacitor is needed from this pin to ground to assure stability. Typical input capacitor = 1.0uF. Both input and output capacitor grounds should be tied back to the IC ground with no significant impedance (See Datasheet)", 2 GND (power) "Ground pin.", 3 EN (in) "Driving the enable pin (EN) over 1.2V turns on the regulator. Driving this pin below 0.4V puts the regulator into shutdown mode, reducing operating current to 18nA typical", 4 VSET (in) "VSET for fixed voltage versions. Driving the select pin (VSET) below 0.4V selects preset output voltage high. Driving the VSET pin over 1.2V selects preset output voltage low.", 5 OUT (power) "Regulated output voltage pin. A small (1uF) ceramic capacitor is needed from this pin to ground to assure stability."

## TPS780270200DDCTG4
designator U?
Single Output LDO, 150 mA, Fixed 2.7 V Output, 2.2 to 5.5 V Input, with Pin-Selectable, 5-pin SOT (DDC), -40 to 125 degC, Green (RoHS & no Sb/Br); Manufacturer: Texas Instruments; PartNumber: TPS780270200DDCTG4; Accuracy(%): 3; Fixed Output Options(V): 2.7; Iout(Max)(A): 0.15; Iq(Typ)(mA): 0.0005; SubFamily: Single Channel LDO; Vdo(Typ)(mV): 200; Vin(Max)(V): 5.5; Vin(Min)(V): 2.2; DatasheetVersion: SBVS083D; PackageVersion: 4204403-2/E; PackageReference: DDC5; PackageDescription: 5-Pin Plastic Small Outline, Body 2.9 x 1.6 mm, 0.95 mm Pitch; Supplier 1: Digi-Key; Supplier Part Number 1: TPS780270200DDCTG4-ND; Supplier 2: Mouser; Supplier Part Number 2: 595-S780270200DDCTG4; Eco-Plan: Green (RoHS & no Sb/Br); Vout Adj(Max)(V): 2.7; Vout Adj(Min)(V): 2.7; Mounting Technology: Surface Mount; Code_JEDEC: MO-193; ComponentLink1Description: Manufacturer URL; ComponentLink1URL: http://www.ti.com/; ComponentLink2Description: Datasheet; ComponentLink2URL: http://www.ti.com/general/docs/lit/getliterature.tsp?genericPartNumber=TPS780270200&fileType=pdf; ComponentLink3Description: Package Specification; ComponentLink3URL: http://www.ti.com/litv/pdf/mpds123d
footprint TI-DDC5_N (SOT23, 5-Leads, Body 2.9x1.6mm, Pitch 0.95mm, IPC Medium Density)
footprint TI-DDC5_L (SOT23, 5-Leads, Body 2.9x1.6mm, Pitch 0.95mm, IPC High Density)
footprint TI-DDC5_M (SOT23, 5-Leads, Body 2.9x1.6mm, Pitch 0.95mm, IPC Low Density)
pins: 1 IN (power) "Input pin. A small capacitor is needed from this pin to ground to assure stability. Typical input capacitor = 1.0uF. Both input and output capacitor grounds should be tied back to the IC ground with no significant impedance (See Datasheet)", 2 GND (power) "Ground pin.", 3 EN (in) "Driving the enable pin (EN) over 1.2V turns on the regulator. Driving this pin below 0.4V puts the regulator into shutdown mode, reducing operating current to 18nA typical", 4 VSET (in) "VSET for fixed voltage versions. Driving the select pin (VSET) below 0.4V selects preset output voltage high. Driving the VSET pin over 1.2V selects preset output voltage low.", 5 OUT (power) "Regulated output voltage pin. A small (1uF) ceramic capacitor is needed from this pin to ground to assure stability."

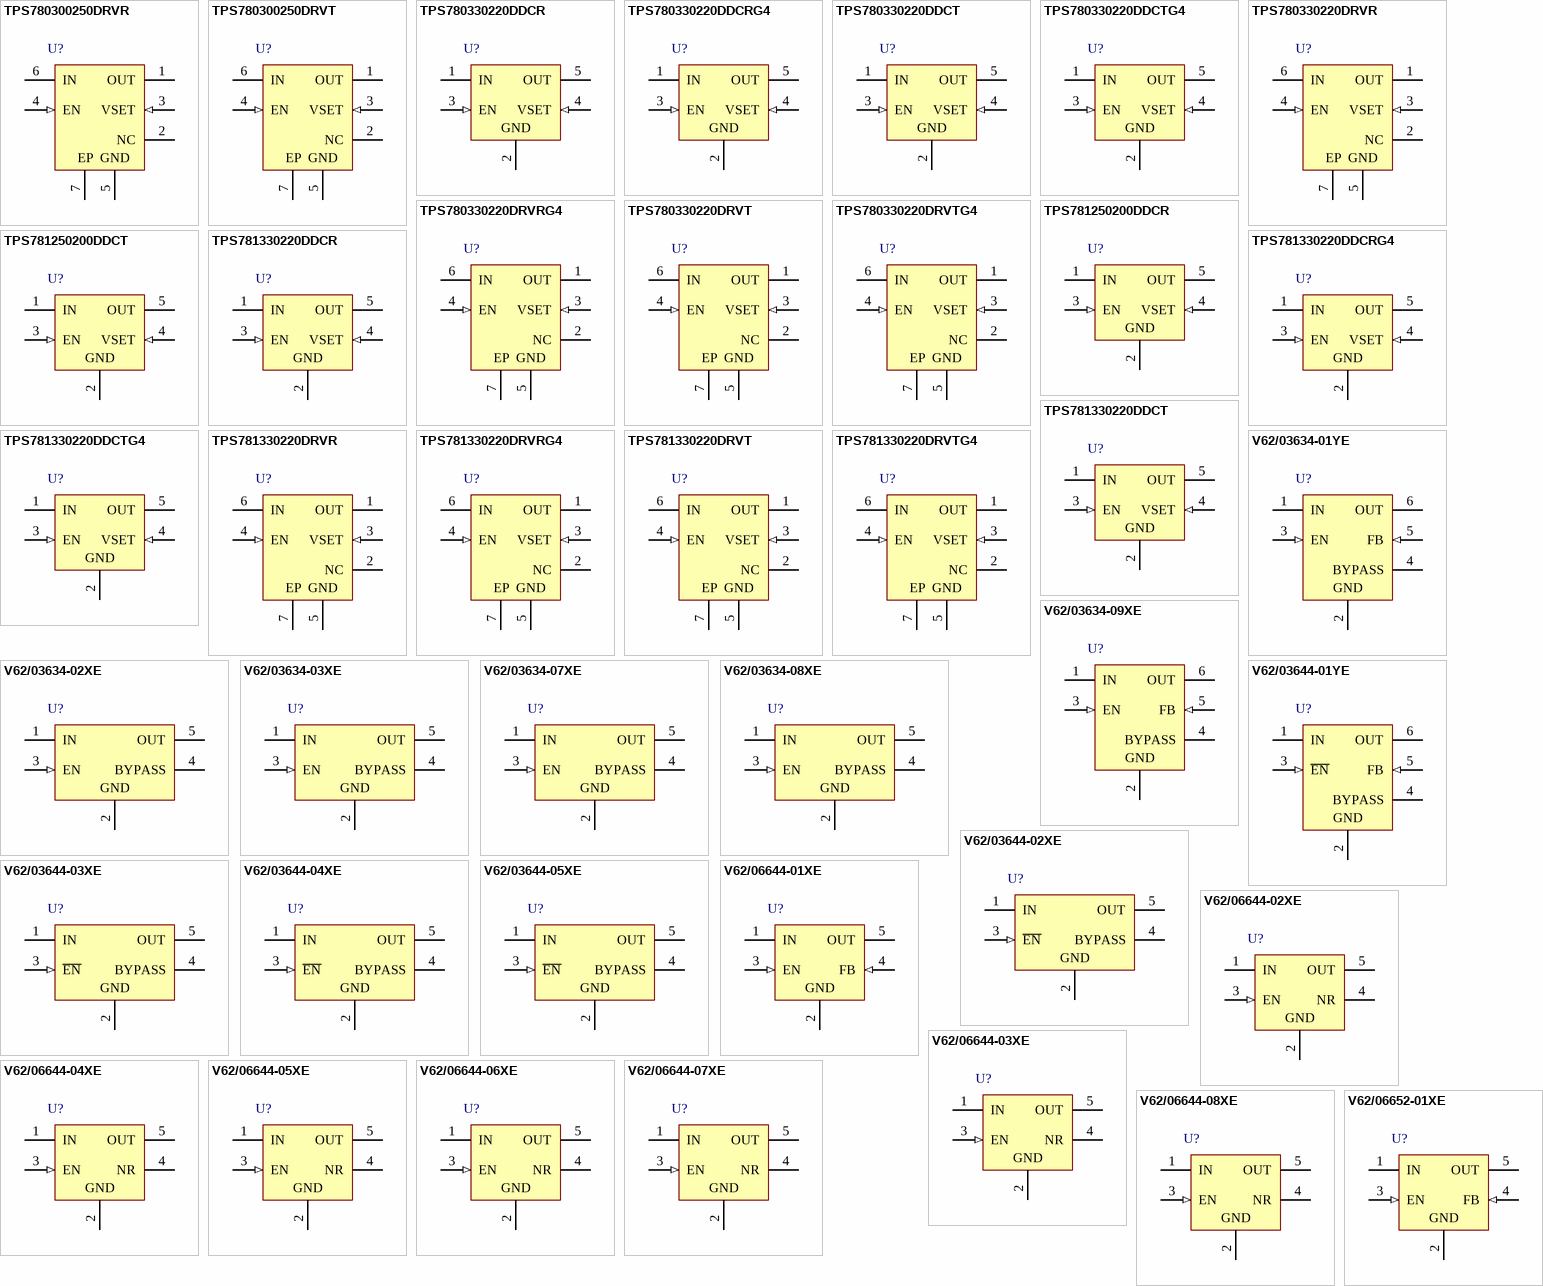
[diagram p41: symbols TPS780300250DRVR to V62/06652-01XE]

## TPS780300250DRVR
designator U?
Single Output LDO, 150 mA, Fixed 3, 2.5 V Output, 2.2 to 5.5 V Input, with Pin-Selectable, 6-pin SON (DRV), -40 to 125 degC, Green (RoHS & no Sb/Br); Manufacturer: Texas Instruments; PartNumber: TPS780300250DRVR; Accuracy(%): 3; Iout(Max)(A): 0.15; Iq(Typ)(mA): 0.0005; SubFamily: Single Channel LDO; Vdo(Typ)(mV): 200; Vin(Max)(V): 5.5; Vin(Min)(V): 2.2; DatasheetVersion: SBVS083D; PackageVersion: 4206925/E; PackageReference: DRV6-1600X1000TP; PackageDescription: 6-Pin Plastic Small Outline No-Lead, Body 2 x 2 mm, Pitch 0.65 mm; Supplier 1: Digi-Key; Supplier Part Number 1: 296-24057-2-ND; Supplier 2: Digi-Key; Supplier Part Number 2: 296-24057-1-ND; Supplier 3: Digi-Key; Supplier Part Number 3: 296-24057-6-ND; Supplier 4: Newark; Supplier Part Number 4: 45P8302; Supplier 5: Mouser; Supplier Part Number 5: 595-TPS780300250DRVR; Eco-Plan: Green (RoHS & no Sb/Br); Fixed Output Options(V): 3; Vout Adj(Max)(V): 3; Vout Adj(Min)(V): 3; Mounting Technology: Surface Mount; ComponentLink1Description: Manufacturer URL; ComponentLink1URL: http://www.ti.com/; ComponentLink2Description: Datasheet; ComponentLink2URL: http://www.ti.com/general/docs/lit/getliterature.tsp?genericPartNumber=TPS780300250&fileType=pdf; ComponentLink3Description: Package Specification; ComponentLink3URL: http://www.ti.com/litv/pdf/mpds216d
footprint TI-DRV6-1600X1000TP_V (SON, 6-Leads, Body 2x2mm, Pitch 0.65mm, Thermal Pad 1X1.6mm)
pins: 1 OUT (power) "Regulated output voltage pin. A small (1uF) ceramic capacitor is needed from this pin to ground to assure stability.", 2 NC "Not connected.", 3 VSET (in) "VSET for fixed voltage versions. Driving the select pin (VSET) below 0.4V selects preset output voltage high. Driving the VSET pin over 1.2V selects preset output voltage low.", 4 EN (in) "Driving the enable pin (EN) over 1.2V turns on the regulator. Driving this pin below 0.4V puts the regulator into shutdown mode, reducing operating current to 18nA typical.", 5 GND (power) "Ground pin.", 6 IN (power) "Input pin. A small capacitor is needed from this pin to ground to assure stability. Typical input capacitor = 1.0uF. Both input and output capacitor grounds should be tied back to the IC ground with no significant impedance (See Datasheet)", 7 EP (power) "It is recommended that the SON package thermal pad be connected to ground."

## TPS780300250DRVT
designator U?
Single Output LDO, 150 mA, Fixed 3, 2.5 V Output, 2.2 to 5.5 V Input, with Pin-Selectable, 6-pin SON (DRV), -40 to 125 degC, Green (RoHS & no Sb/Br); Manufacturer: Texas Instruments; PartNumber: TPS780300250DRVT; Accuracy(%): 3; Fixed Output Options(V): 3, 2.5; Iout(Max)(A): 0.15; Iq(Typ)(mA): 0.0005; SubFamily: Single Channel LDO; Vdo(Typ)(mV): 200; Vin(Max)(V): 5.5; Vin(Min)(V): 2.2; DatasheetVersion: SBVS083D; PackageVersion: 4206925/E; PackageReference: DRV6-1600X1000TP; PackageDescription: 6-Pin Plastic Small Outline No-Lead, Body 2 x 2 mm, Pitch 0.65 mm; Supplier 1: Digi-Key; Supplier Part Number 1: TPS780300250DRVT-ND; Supplier 2: Farnell; Supplier Part Number 2: 1755649; Supplier 3: Farnell; Supplier Part Number 3: 1755649RL; Supplier 4: Newark; Supplier Part Number 4: 34R9254; Supplier 5: Mouser; Supplier Part Number 5: 595-TPS780300250DRVT; Eco-Plan: Green (RoHS & no Sb/Br); Mounting Technology: Surface Mount; ComponentLink1Description: Manufacturer URL; ComponentLink1URL: http://www.ti.com/; ComponentLink2Description: Datasheet; ComponentLink2URL: http://www.ti.com/general/docs/lit/getliterature.tsp?genericPartNumber=TPS780300250&fileType=pdf; ComponentLink3Description: Package Specification; ComponentLink3URL: http://www.ti.com/litv/pdf/mpds216d
footprint TI-DRV6-1600X1000TP_V (SON, 6-Leads, Body 2x2mm, Pitch 0.65mm, Thermal Pad 1X1.6mm)
pins: 1 OUT (power) "Regulated output voltage pin. A small (1uF) ceramic capacitor is needed from this pin to ground to assure stability.", 2 NC "Not connected.", 3 VSET (in) "VSET for fixed voltage versions. Driving the select pin (VSET) below 0.4V selects preset output voltage high. Driving the VSET pin over 1.2V selects preset output voltage low.", 4 EN (in) "Driving the enable pin (EN) over 1.2V turns on the regulator. Driving this pin below 0.4V puts the regulator into shutdown mode, reducing operating current to 18nA typical.", 5 GND (power) "Ground pin.", 6 IN (power) "Input pin. A small capacitor is needed from this pin to ground to assure stability. Typical input capacitor = 1.0uF. Both input and output capacitor grounds should be tied back to the IC ground with no significant impedance (See Datasheet)", 7 EP (power) "It is recommended that the SON package thermal pad be connected to ground."

## TPS780330220DDCR
designator U?
Single Output Dual Level Fixed LDO, 150 mA, Fixed 2.2, 3.3 V Output, 2.2 to 5.5 V Input, with Vset Pin, 5-pin SOT (DDC), -40 to 125 degC, Green (RoHS & no Sb/Br); Manufacturer: Texas Instruments; PartNumber: TPS780330220DDCR; Accuracy(%): 3; Dynamic Voltage Scaling: TRUE; Fixed Output Options(V): 3.3; Iout(Max)(A): 0.15; Iq(Typ)(mA): 0.0005; SubFamily: Single Channel LDO; Vdo(Typ)(mV): 200; Vin(Max)(V): 5.5; Vin(Min)(V): 2.2; DatasheetVersion: SBVS083D; PackageVersion: 4204403-2/E; PackageReference: DDC5; PackageDescription: 5-Pin Plastic Small Outline, Body 2.9 x 1.6 mm, 0.95 mm Pitch; Supplier 1: Digi-Key; Supplier Part Number 1: 296-23332-2-ND; Supplier 2: Digi-Key; Supplier Part Number 2: 296-23332-1-ND; Supplier 3: Digi-Key; Supplier Part Number 3: 296-23332-6-ND; Supplier 4: Newark; Supplier Part Number 4: 95M0133; Supplier 5: Mouser; Supplier Part Number 5: 595-TPS780330220DDCR; Eco-Plan: Green (RoHS & no Sb/Br); Vout Adj(Max)(V): 3.3; Vout Adj(Min)(V): 3.3; Mounting Technology: Surface Mount; Code_JEDEC: MO-193; ComponentLink1Description: Manufacturer URL; ComponentLink1URL: http://www.ti.com/; ComponentLink2Description: Datasheet; ComponentLink2URL: http://www.ti.com/general/docs/lit/getliterature.tsp?genericPartNumber=TPS780330220&fileType=pdf; ComponentLink3Description: Package Specification; ComponentLink3URL: http://www.ti.com/litv/pdf/mpds123d
footprint TI-DDC5_N (SOT23, 5-Leads, Body 2.9x1.6mm, Pitch 0.95mm, IPC Medium Density)
footprint TI-DDC5_L (SOT23, 5-Leads, Body 2.9x1.6mm, Pitch 0.95mm, IPC High Density)
footprint TI-DDC5_M (SOT23, 5-Leads, Body 2.9x1.6mm, Pitch 0.95mm, IPC Low Density)
pins: 1 IN (power) "Input pin. A small capacitor is needed from this pin to ground to assure stability. Typical input capacitor = 1.0uF. Both input and output capacitor grounds should be tied back to the IC ground with no significant impedance (See Datasheet)", 2 GND (power) "Ground pin.", 3 EN (in) "Driving the enable pin (EN) over 1.2V turns on the regulator. Driving this pin below 0.4V puts the regulator into shutdown mode, reducing operating current to 18nA typical", 4 VSET (in) "VSET for fixed voltage versions. Driving the select pin (VSET) below 0.4V selects preset output voltage high. Driving the VSET pin over 1.2V selects preset output voltage low.", 5 OUT (power) "Regulated output voltage pin. A small (1uF) ceramic capacitor is needed from this pin to ground to assure stability."